# Altium schematic symbol library Filters.SchLib: 1 symbol
Pins are listed as number, name and electrical type; pins without a type are passive.

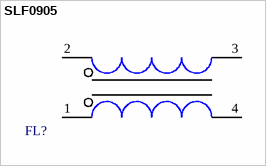
[diagram p0: symbol SLF0905]

## SLF0905
designator FL?  (value not drawn)
footprint SLF0905 (DFN3127P600-8N)
pins: 1, 2, 3, 4